# Altium footprint library SparkFun-Switches.PCBLIB: 67 footprints (part 6 of 6)
Each footprint in its own frame and in the unit in brackets; x right, y up, seen from the top. Pads: shape width x height; smd on the part's side, far side on the other; paste and mask are expansions set on the pad; w line width, h text height; cw(c..) or ccw(c..) is an arc to the next point about the centre after c.
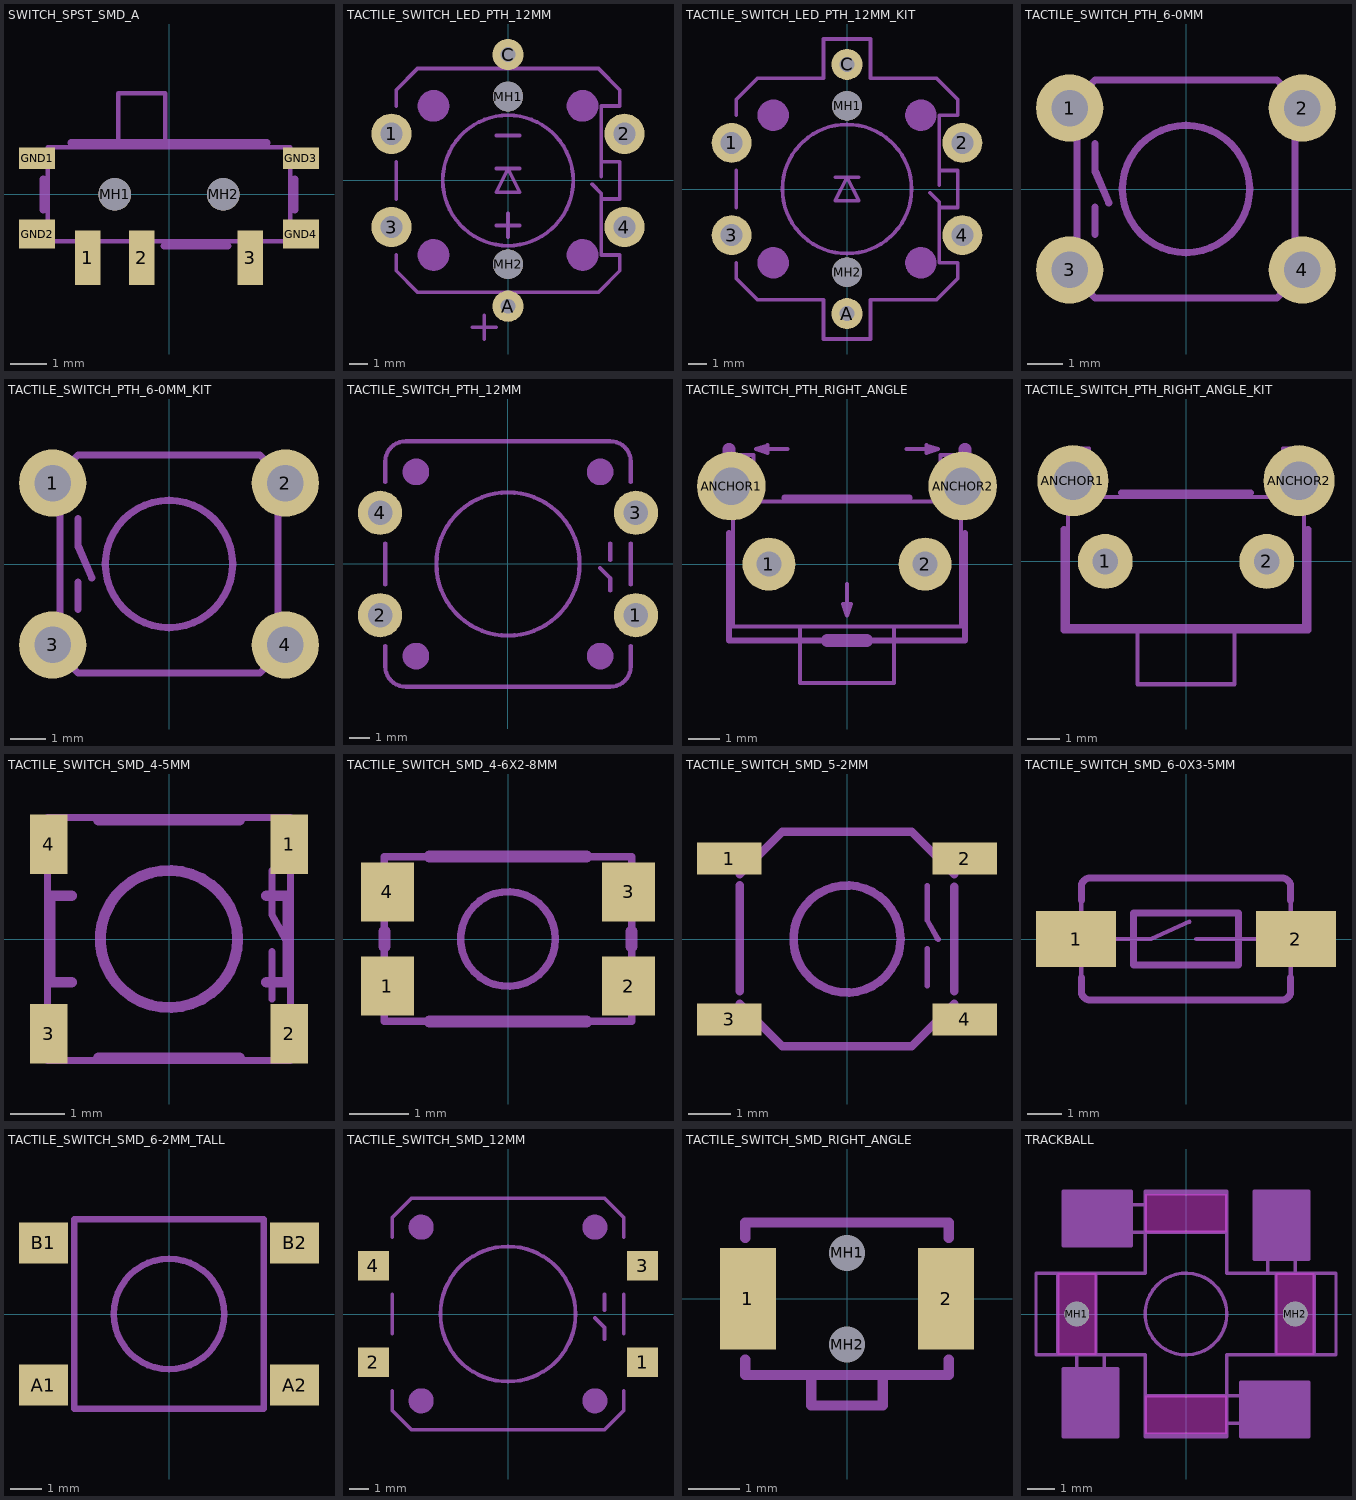
[diagram p5: the footprints below, top view; thin cyan lines are the x and y axes]

## SWITCH_SPST_SMD_A [mm]
pads (9):
  rect 0.7x1.5 smd: 1(-2.25,-1.75) 2(-0.75,-1.75) 3(2.25,-1.75)
  rect 1x0.6 smd: GND1(-3.65,1) GND3(3.65,1)
  rect 1x0.8 smd: GND2(-3.65,-1.1) GND4(3.65,-1.1)
  round 0.9 hole 0.9 unplated: MH1(-1.5,0) MH2(1.5,0)
tDocu:
  lines w0.127: -1.4,1.3 -0.1,1.3 ; -1.4,1.3 -3.35,1.3 -3.35,-1.3 3.35,-1.3 3.35,1.3 -0.1,1.3 ; -1.4,1.3 -1.4,2.8 -0.1,2.8 -0.1,1.3
tPlace:
  lines w0.203: -3.477,-0.427 -3.477,0.427 ; -2.7,1.427 2.7,1.427 ; -0.127,-1.427 1.627,-1.427 ; 3.477,-0.427 3.477,0.427

## TACTILE_SWITCH_LED_PTH_12MM [mil]
pads (8):
  round 85 hole 47.24: 1(-246.06,98.43) 2(246.06,98.43) 3(-246.06,-98.43) 4(246.06,-98.43)
  round 66 hole 31.5: A(0,-265.75) C(0,265.75)
  round 62.99 hole 62.99 unplated: MH1(0,177.17) MH2(0,-177.17)
tDocu:
  lines w8: 177.17,-7.87 196.85,-27.56 196.85,-51.18 ; 196.85,7.87 196.85,39.37
tPlace:
  circle w8: c0,0 r137.8
  circle w35.43: c-157.48,157.48 r15.75
  circle w35.43: c157.48,157.48 r15.75
  circle w35.43: c157.48,-157.48 r15.75
  circle w35.43: c-157.48,-157.48 r15.75
  lines w8: -236.22,-157.48 -236.22,-190.94 -190.94,-236.22 190.94,-236.22 236.22,-190.94 236.22,-157.48 196.85,-157.48 196.85,-39.37 236.22,-39.37 236.22,39.37 196.85,39.37 196.85,157.48 236.22,157.48 236.22,190.94 190.94,236.22 -190.94,236.22 -236.22,190.94 -236.22,157.48 ; -236.22,-39.37 -236.22,39.37 ; -75,-310 -25,-310 ; -50,-335 -50,-285 ; -25,-95 25,-95 ; -25,25 0,25 ; -25,95 25,95 ; 0,-120 0,-70 ; 25,25 0,25 ; 0,25 25,-25 -25,-25 0,25

## TACTILE_SWITCH_LED_PTH_12MM_KIT [mil]
pads (8):
  round 85 hole 47.24: 1(-246.06,98.43) 2(246.06,98.43) 3(-246.06,-98.43) 4(246.06,-98.43)
  round 66 hole 31.5: A(0,-265.75) C(0,265.75)
  round 62.99 hole 62.99 unplated: MH1(0,177.17) MH2(0,-177.17)
Top Solder:
  region: 0,253 2.59,253 7.36,254.98 11.02,258.64 13,263.41 13,266 13,268.59 11.02,273.36 7.36,277.02 2.59,279 0,279 -2.69,278.9 -7.57,276.66 -11.23,272.72 -13.1,267.69 -13,265 -12.9,262.51 -10.81,258 -7.16,254.62 -2.49,252.9 0,253
  region: 0,-278.7 2.59,-278.7 7.36,-276.72 11.02,-273.06 13,-268.29 13,-265.7 13,-263.11 11.02,-258.34 7.36,-254.68 2.59,-252.7 0,-252.7 -2.69,-252.8 -7.57,-255.04 -11.23,-258.98 -13.1,-264.01 -13,-266.7 -12.9,-269.19 -10.81,-273.7 -7.16,-277.08 -2.49,-278.8 0,-278.7
  region: -246.2,-119.1 -242,-119.02 -234.31,-115.66 -228.49,-109.61 -225.42,-101.8 -225.5,-97.6 -225.56,-93.54 -228.78,-86.09 -234.6,-80.44 -242.14,-77.44 -246.2,-77.5 -250.43,-77.59 -258.17,-80.99 -264.02,-87.09 -267.09,-94.97 -267,-99.2 -266.91,-103.25 -263.65,-110.66 -257.8,-116.26 -250.25,-119.19 -246.2,-119.1
  region: -246.1,77.4 -241.9,77.48 -234.21,80.84 -228.39,86.89 -225.32,94.7 -225.4,98.9 -225.46,102.96 -228.68,110.41 -234.5,116.06 -242.04,119.06 -246.1,119 -250.33,118.91 -258.07,115.51 -263.92,109.41 -266.99,101.53 -266.9,97.3 -266.81,93.25 -263.55,85.84 -257.7,80.24 -250.15,77.31 -246.1,77.4
  region: 246.3,-119.3 250.5,-119.22 258.19,-115.86 264.01,-109.81 267.08,-102 267,-97.8 266.94,-93.74 263.72,-86.29 257.9,-80.64 250.36,-77.64 246.3,-77.7 242.07,-77.79 234.33,-81.19 228.48,-87.29 225.41,-95.17 225.5,-99.4 225.59,-103.45 228.85,-110.86 234.7,-116.46 242.25,-119.39 246.3,-119.3
  region: 246.1,77.5 250.3,77.58 257.99,80.94 263.81,86.99 266.88,94.8 266.8,99 266.74,103.06 263.52,110.51 257.7,116.16 250.16,119.16 246.1,119.1 241.87,119.01 234.13,115.61 228.28,109.51 225.21,101.63 225.3,97.4 225.39,93.35 228.65,85.94 234.5,80.34 242.05,77.41 246.1,77.5
Bottom Solder:
  drawing of 6 lines, arcs and shapes, not listed
tDocu:
  lines w8: 177.17,-7.87 196.85,-27.56 196.85,-51.18 ; 196.85,7.87 196.85,39.37
tPlace:
  circle w8: c0,0 r137.8
  circle w35.43: c-157.48,157.48 r15.75
  circle w35.43: c157.48,157.48 r15.75
  circle w35.43: c157.48,-157.48 r15.75
  circle w35.43: c-157.48,-157.48 r15.75
  lines w8: -236.22,-157.48 -236.22,-190.94 -190.94,-236.22 -50,-236.22 -50,-320 50,-320 50,-236.22 190.94,-236.22 236.22,-190.94 236.22,-157.48 196.85,-157.48 196.85,-39.37 236.22,-39.37 236.22,39.37 196.85,39.37 196.85,157.48 236.22,157.48 236.22,190.94 190.94,236.22 50,236.22 50,320 -50,320 -50,236.22 -190.94,236.22 -236.22,190.94 -236.22,157.48 ; -236.22,-39.37 -236.22,39.37 ; -25,25 0,25 ; 25,25 0,25 ; 0,25 25,-25 -25,-25 0,25
  text "+" at -33.75,-138 h73.1
  text "-" at -31.75,66.75 h73.1
  text "+" at 64.67,-313.98 h73.1

## TACTILE_SWITCH_PTH_6-0MM [mil]
pads (4):
  round 74 hole 40: 1(-128,89) 2(128,89) 3(-128,-89) 4(128,-89)
tDocu:
  lines w8: -120,-40 -120,-100 -100,-120 -85,-120 ; -120,40 -120,100 -100,120 -85,120 ; -100,-50 -100,-20 ; -100,50 -100,20 -85,-15 ; 85,-120 100,-120 120,-100 120,-40 ; 85,120 100,120 120,100 120,40
tPlace:
  circle w8: c0,0 r70
  lines w8: -120,-40 -120,40.47 ; -85,-120 85,-120 ; -85,120 85,120 ; 120,-40 120,39.29

## TACTILE_SWITCH_PTH_6-0MM_KIT [mil]
pads (4):
  round 74 hole 40: 1(-128,89) 2(128,89) 3(-128,-89) 4(128,-89)
Top Solder:
  region: -127.8,106.4 -128.3,106.5 -131.67,106.49 -137.89,103.89 -142.65,99.11 -145.21,92.87 -145.2,89.5 -145.2,89.1 -145.24,85.68 -142.69,79.33 -137.91,74.43 -131.62,71.74 -128.2,71.7 -127,71.6 -123.62,71.72 -117.46,74.53 -112.85,79.48 -110.48,85.82 -110.6,89.2 -110.6,89 -110.58,92.44 -113.18,98.82 -118.02,103.71 -124.36,106.38 -127.8,106.4
  region: 128.4,106.3 127.9,106.4 124.53,106.39 118.31,103.79 113.55,99.01 110.99,92.77 111,89.4 111,89 110.96,85.58 113.51,79.23 118.29,74.34 124.58,71.65 128,71.61 129.2,71.5 132.58,71.62 138.74,74.43 143.36,79.38 145.72,85.73 145.6,89.11 145.6,88.9 145.62,92.34 143.02,98.72 138.18,103.61 131.84,106.28 128.4,106.3
  region: -127.6,-71.9 -128.1,-71.8 -131.47,-71.81 -137.69,-74.41 -142.45,-79.19 -145.01,-85.43 -145,-88.8 -145,-89.2 -145.04,-92.62 -142.49,-98.97 -137.71,-103.86 -131.42,-106.55 -128,-106.59 -126.8,-106.7 -123.42,-106.58 -117.26,-103.77 -112.64,-98.82 -110.28,-92.47 -110.4,-89.09 -110.4,-89.3 -110.38,-85.86 -112.98,-79.48 -117.81,-74.59 -124.16,-71.92 -127.6,-71.9
  region: 128.4,-71.8 127.9,-71.7 124.53,-71.71 118.31,-74.31 113.55,-79.09 110.99,-85.33 111,-88.7 111,-89.1 110.96,-92.52 113.51,-98.87 118.29,-103.77 124.58,-106.46 128,-106.5 129.2,-106.6 132.58,-106.48 138.74,-103.67 143.35,-98.72 145.72,-92.38 145.6,-89 145.6,-89.2 145.62,-85.76 143.02,-79.38 138.18,-74.49 131.84,-71.82 128.4,-71.8
Bottom Solder:
  drawing of 4 lines, arcs and shapes, not listed
tDocu:
  lines w8: -120,-40 -120,-100 -100,-120 -85,-120 ; -120,40 -120,100 -100,120 -85,120 ; -100,-50 -100,-20 ; -100,50 -100,20 -85,-15 ; 85,-120 100,-120 120,-100 120,-40 ; 85,120 100,120 120,100 120,40
tPlace:
  circle w8: c0,0 r70
  lines w8: -120,-40 -120,40.47 ; -85,-120 85,-120 ; -85,120 85,120 ; 120,-40 120,39.29

## TACTILE_SWITCH_PTH_12MM [mil]
pads (4):
  round 85 hole 47.24: 1(246.06,-98.43) 2(-246.06,-98.43) 3(246.06,98.43) 4(-246.06,98.43)
tDocu:
  lines w8: 177.17,-7.87 196.85,-27.56 196.85,-51.18 ; 196.85,7.87 196.85,39.37
tPlace:
  circle w8: c0,0 r137.8
  circle w27.56: c-177.17,177.17 r11.81
  circle w27.56: c177.17,177.17 r11.81
  circle w27.56: c177.17,-177.17 r11.81
  circle w27.56: c-177.17,-177.17 r11.81
  lines w8: -236.22,-157.48 -236.22,-196.85 ccw(c-196.85,-196.85) -196.85,-236.22 196.85,-236.22 ccw(c196.85,-196.85) 236.22,-196.85 236.22,-157.48 ; -236.22,-39.37 -236.22,39.37 ; -236.22,157.48 -236.22,196.85 cw(c-196.85,196.85) -196.85,236.22 196.85,236.22 cw(c196.85,196.85) 236.22,196.85 236.22,157.48 ; 236.22,-39.37 236.22,39.37

## TACTILE_SWITCH_PTH_RIGHT_ANGLE [mil]
pads (4):
  round 66.93 hole 31.5: 1(-98.43,0) 2(98.43,0)
  round 86.61 hole 47.24: ANCHOR1(-145.8,98.43) ANCHOR2(145.8,98.43)
Top Solder:
  circle w0: c98.43,0 r17.5
  circle w0: c-98.43,0 r17.5
Bottom Solder:
  circle w0: c98.43,0 r35
  circle w0: c-98.43,0 r35
tDocu:
  lines w5: -75,145 -115,145 ; 0,-25 0,-65 ; 75,145 115,145 ; -115,145 -100,150 -100,140 -115,145 ; -59.06,-78.74 -143.7,-78.74 -143.7,137.8 -118.11,137.8 -118.11,78.74 118.11,78.74 118.11,137.8 143.7,137.8 143.7,-78.74 59.06,-78.74 ; -59.06,-78.74 59.06,-78.74 ; -59.06,-78.74 -59.06,-149.61 59.06,-149.61 59.06,-78.74 ; 0,-65 -5,-50 5,-50 0,-65 ; 115,145 100,140 100,150 115,145
  lines w16: -148.7,75 -148.7,145 ; -25,-96.26 25,-96.26 ; 148.7,75 148.7,145
  text "Foot" at -50,-10 h27.2
  text "Feet" at -50,130 h27.2
tPlace:
  lines w8: -148.7,39.37 -148.7,-96.26 148.7,-96.26 148.7,39.37 ; -78.74,83.74 78.74,83.74

## TACTILE_SWITCH_PTH_RIGHT_ANGLE_KIT [mil]
pads (4):
  round 66.93 hole 31.5: 1(-98.43,0) 2(98.43,0)
  round 86.61 hole 47.24: ANCHOR1(-137.8,98.43) ANCHOR2(137.8,98.43)
Top Solder:
  circle w0: c98.43,0 r17.5
  circle w0: c-98.43,0 r17.5
  circle w0: c-137.8,98.43 r25
  circle w0: c137.8,98.43 r25
Bottom Solder:
  circle w0: c-137.8,98.43 r45
  circle w0: c98.43,0 r35
  circle w0: c-98.43,0 r35
  circle w0: c137.8,98.43 r45
tDocu:
  lines w5: -59.06,-78.74 -143.7,-78.74 -143.7,137.8 -118.11,137.8 -118.11,78.74 118.11,78.74 118.11,137.8 143.7,137.8 143.7,-78.74 59.06,-78.74 ; -59.06,-78.74 59.06,-78.74 ; -59.06,-78.74 -59.06,-149.61 59.06,-149.61 59.06,-78.74
tPlace:
  lines w8: -148.7,39.37 -148.7,-83.74 148.7,-83.74 148.7,39.37 ; -78.74,83.74 78.74,83.74

## TACTILE_SWITCH_SMD_4-5MM [mil]
pads (4):
  rect 27.56x43.31 smd: 1(87.6,68.9) 2(87.6,-68.9) 3(-87.6,-68.9) 4(-87.6,68.9)
tDocu:
  lines w5: 75,-43.9 75,-9.06 ; 75,50 75,17.52 85.04,-0.39 ; -88.58,-88.58 88.58,-88.58 88.58,88.58 -88.58,88.58 -88.58,-88.58
tPlace:
  circle w8: c0,0 r50
  lines w8: -70.87,-31.5 -86.61,-31.5 -86.61,31.5 -70.87,31.5 ; -51.18,-86.61 51.18,-86.61 ; -51.18,86.61 51.18,86.61 ; 70.87,-31.5 86.61,-31.5 86.61,31.5 70.87,31.5

## TACTILE_SWITCH_SMD_4-6X2-8MM [mil]
pads (4):
  rect 35.43x39.37 smd: 1(-80.71,-31.5) 2(80.71,-31.5) 3(80.71,31.5) 4(-80.71,31.5)
tDocu:
  region: -90.55,19.69 -90.55,43.31 -82.68,43.31 -82.68,19.69
  region: -90.55,-43.31 -90.55,-19.69 -82.68,-19.69 -82.68,-43.31
  region: 90.55,-19.69 90.55,-43.31 82.68,-43.31 82.68,-19.69
  region: 90.55,43.31 90.55,19.69 82.68,19.69 82.68,43.31
  lines w5: -82.68,-55.12 -82.68,55.12 82.68,55.12 82.68,-55.12 -82.68,-55.12
tPlace:
  circle w5: c0,0 r31.69
  lines w8: -82.68,-5.12 -82.68,5.12 ; -52.68,-55.12 52.68,-55.12 ; -52.68,55.12 52.68,55.12 ; 82.68,-5.12 82.68,5.12

## TACTILE_SWITCH_SMD_5-2MM [mil]
pads (4):
  rect 60x30 smd: 1(-110,75) 2(110,75) 3(-110,-75) 4(110,-75)
tDocu:
  lines w5: 75,-43.9 75,-9.06 ; 75,50 75,17.52 85.04,-0.39
  lines w8: -100,-60.63 -60.63,-100 ; -100,60.63 -60.63,100 ; 60.63,-100 100,-60.63 ; 60.63,100 100,60.63
tPlace:
  circle w8: c0,0 r50
  lines w8: -100,-48.82 -100,50 ; -60.63,-100 60.63,-100 ; -60.63,100 60.63,100 ; 100,-48.82 100,48.82

## TACTILE_SWITCH_SMD_6-0X3-5MM [mil]
pads (2):
  rect 90.55x62.99 smd: 1(-124.02,0) 2(124.02,0)
tDocu:
  lines w5: -118.11,-43.31 -118.11,43.31 ; -78.74,0 -39.37,0 3.94,19.69 ; 11.81,0 78.74,0 ; 118.11,-43.31 118.11,43.31
tPlace:
  lines w8: -118.11,-43.31 -118.11,-59.06 ccw(c-108.27,-59.06) -108.27,-68.9 108.27,-68.9 ccw(c108.27,-59.06) 118.11,-59.06 118.11,-43.31 ; -118.11,43.31 -118.11,59.06 cw(c-108.27,59.06) -108.27,68.9 108.27,68.9 cw(c108.27,59.06) 118.11,59.06 118.11,43.31 ; -59.06,-29.53 59.06,-29.53 59.06,29.53 -59.06,29.53 -59.06,-29.53

## TACTILE_SWITCH_SMD_6-2MM_TALL [mil]
pads (4):
  rect 61.02x51.18 smd: A1(-156.5,-88.58) A2(156.5,-88.58) B1(-156.5,88.58) B2(156.5,88.58)
tPlace:
  circle w8: c0,0 r68.9
  lines w8: -118.11,-118.11 118.11,-118.11 118.11,118.11 -118.11,118.11 -118.11,-118.11

## TACTILE_SWITCH_SMD_12MM [mil]
pads (4):
  rect 62.99x61.02 smd: 1(274.61,-98.43) 2(-274.61,-98.43) 3(274.61,98.43) 4(-274.61,98.43)
tDocu:
  lines w8: 177.17,-7.87 196.85,-27.56 196.85,-51.18 ; 196.85,7.87 196.85,39.37
tPlace:
  circle w8: c0,0 r137.8
  circle w27.56: c-177.17,177.17 r11.81
  circle w27.56: c177.17,177.17 r11.81
  circle w27.56: c177.17,-177.17 r11.81
  circle w27.56: c-177.17,-177.17 r11.81
  lines w8: -236.22,-157.48 -236.22,-196.85 -196.85,-236.22 196.85,-236.22 236.22,-196.85 236.22,-157.48 ; -236.22,-39.37 -236.22,39.37 ; -236.22,157.48 -236.22,196.85 -196.85,236.22 196.85,236.22 236.22,196.85 236.22,157.48 ; 236.22,-39.37 236.22,39.37

## TACTILE_SWITCH_SMD_RIGHT_ANGLE [mm]
pads (4):
  rect 1.1x2 smd: 1(-1.95,0) 2(1.95,0)
  round 0.7 hole 0.7 unplated: MH1(0,0.9) MH2(0,-0.9)
tPlace:
  lines w0.203: -2,-1.2 -2,-1.5 -0.7,-1.5 ; -2,1.2 -2,1.5 2,1.5 2,1.2 ; 2,-1.2 2,-1.5 0.7,-1.5 ; -0.7,-1.5 0.7,-1.5 ; -0.7,-1.5 -0.7,-2.1 0.7,-2.1 0.7,-1.5

## TRACKBALL [mm]
pads (2):
  round 0.9 hole 0.9 unplated: MH1(-4,0) MH2(4,0)
Top keep-out:
  region: -4.7,-1.5 -4.7,1.5 -3.3,1.5 -3.3,-1.5
  region: -1.5,3 -1.5,4.4 1.5,4.4 1.5,3
  region: 3.3,-1.5 3.3,1.5 4.7,1.5 4.7,-1.5
  region: -1.5,-4.4 -1.5,-3 1.5,-3 1.5,-4.4
tDocu:
  circle w0.127: c0,0 r1.5
  lines w0.127: -4,-2 -4,-1.5 ; -3,-2 -3,-1.5 ; -2,3 -1.5,3 ; -2,4 -1.5,4 ; 2,-4 1.5,-4 ; 2,-3 1.5,-3 ; 3,2 3,1.5 ; 4,2 4,1.5 ; -4,-1.5 -5.5,-1.5 -5.5,1.5 -1.5,1.5 -1.5,3 ; -4,-1.5 -3,-1.5 ; -3,-1.5 -1.5,-1.5 -1.5,-4.5 1.5,-4.5 1.5,-4 ; -1.5,3 -1.5,4 ; -1.5,4 -1.5,4.5 1.5,4.5 1.5,1.5 3,1.5 ; 1.5,-4 1.5,-3 ; 1.5,-3 1.5,-1.5 5.5,-1.5 5.5,1.5 4,1.5 ; 3,1.5 4,1.5
Measures:
  lines w0.127: -4.7,-1.5 -4.7,1.5 -3.3,1.5 -3.3,-1.5 -4.7,-1.5 ; -4.5,-4.5 -2.5,-4.5 -2.5,-2 -4.5,-2 -4.5,-4.5 ; -4.5,2.5 -2,2.5 -2,4.5 -4.5,4.5 -4.5,2.5 ; -1.5,-4.4 1.5,-4.4 1.5,-3 -1.5,-3 -1.5,-4.4 ; -1.5,3 1.5,3 1.5,4.4 -1.5,4.4 -1.5,3 ; 2,-4.5 2,-2.5 4.5,-2.5 4.5,-4.5 2,-4.5 ; 2.5,2 4.5,2 4.5,4.5 2.5,4.5 2.5,2 ; 3.3,-1.5 4.7,-1.5 4.7,1.5 3.3,1.5 3.3,-1.5
Mech33:
  region: 2,-4.5 2,-2.5 4.5,-2.5 4.5,-4.5
  region: -4.5,-4.5 -4.5,-2 -2.5,-2 -2.5,-4.5
  region: -4.5,2.5 -4.5,4.5 -2,4.5 -2,2.5
  region: 2.5,2 2.5,4.5 4.5,4.5 4.5,2